# Altium footprint library CRHT-D000027.PcbLib: 23 footprints (part 2 of 2)
Each footprint in its own frame and in the unit in brackets; x right, y up, seen from the top. Pads: shape width x height; smd on the part's side, far side on the other; paste and mask are expansions set on the pad; w line width, h text height; cw(c..) or ccw(c..) is an arc to the next point about the centre after c.
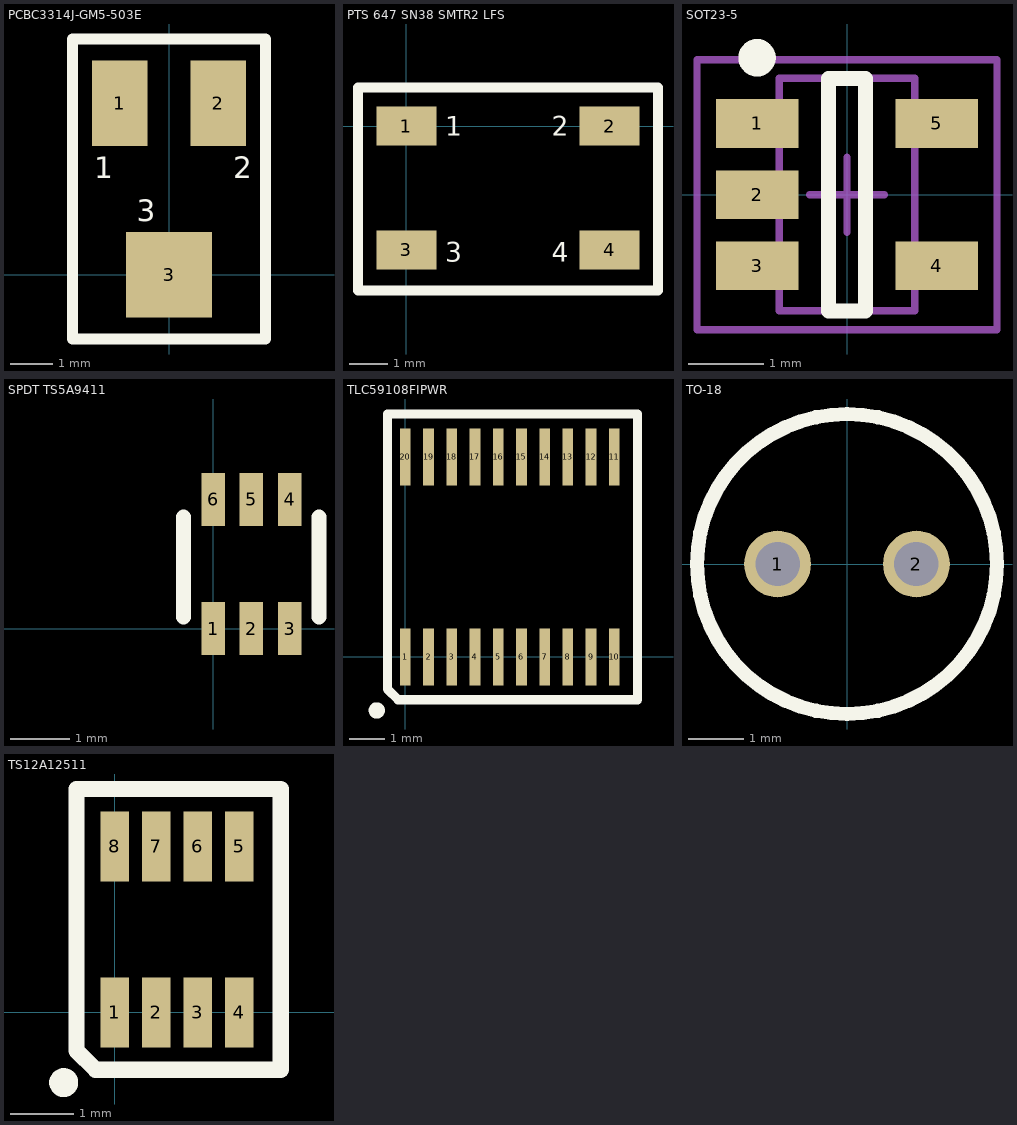
[diagram p1: the footprints below, top view; thin cyan lines are the x and y axes]

## PCBC3314J-GM5-503E [mm] "Potentiameter"
pads (3):
  rect 1.3x2 smd: 1(-1.15,4) 2(1.15,4)
  rect 2x2 smd: 3(0,0)
Top Overlay:
  lines w0.254: -2.25,-1.5 2.25,-1.5 2.25,5.5 -2.25,5.5 -2.25,-1.5
  text "1" at -1.75,2.25 h0.5
  text "2" at 1.5,2.25 h0.5
  text "3" at -0.75,1.25 h0.5

## PTS 647 SN38 SMTR2 LFS [mm] "SMT Switch"
height 2.5
pads (4):
  rect 1.55x1 smd: 1(0,0) 2(5.25,0) 3(0,-3.2) 4(5.25,-3.2)
Top Overlay:
  lines w0.254: -1.25,-4.25 6.5,-4.25 6.5,1 -1.25,1 -1.25,-4.25
  text "2" at 3.75,-0.25 h0.5
  text "1" at 1,-0.25 h0.5
  text "4" at 3.75,-3.5 h0.5
  text "3" at 1,-3.5 h0.5

## SOT23-5 [mm] "SOT23, 6-Leads, Body 2.9x1.6mm, Pitch 0.95mm, Lead Span 2.7mm, IPC Medium Density"
height 1.45
pads (5):
  rect 1.1x0.65 smd: 1(-1.2,0.95) 2(-1.2,0) 3(-1.2,-0.95) 4(1.2,-0.95) 5(1.2,0.95)
Top Overlay:
  circle w0.25: c-1.2,1.825 r0.125
  lines w0.2: -0.25,-1.55 0.25,-1.55 0.25,1.55 -0.25,1.55 -0.25,-1.55
Mechanical 13:
  lines w0.1: -0.9,-1.55 -0.9,1.55 0.9,1.55 0.9,-1.55 -0.9,-1.55
Mechanical 15:
  lines w0.1: -0.5,0 0.5,0 ; 0,-0.5 0,0.5 ; -2,-1.8 -2,1.8 2,1.8 2,-1.8 -2,-1.8
3D body "CRHT-M000541 Rev01 - OPA626NB Wideband, Unity-Gain Stable, FET-Input Operational Amplifier.STEP": height 1.45, standoff 0, extent -1.45,-1.45 1.35,1.45

## SPDT TS5A9411 [mm] "SPDT Multiplexer"
pads (6):
  rect 0.4x0.9 smd mask+0.05: 1(0,0) 2(0.65,0) 3(1.3,0) 4(1.3,2.2) 5(0.65,2.2) 6(0,2.2)
Top Layer:
  region: -3.3,0.2
Top Overlay:
  lines w0.254: -0.5,0.2 -0.5,1.9 ; 1.8,0.2 1.8,1.9

## TLC59108FIPWR [mm]
pads (20):
  rect 0.3x1.6 smd mask+0.07: 1(0,0) 2(0.65,0) 3(1.3,0) 4(1.95,0) 5(2.6,0) 6(3.25,0) 7(3.9,0) 8(4.55,0) 9(5.2,0) 10(5.85,0) 11(5.85,5.6) 12(5.2,5.6) 13(4.55,5.6) 14(3.9,5.6) 15(3.25,5.6) 16(2.6,5.6) 17(1.95,5.6) 18(1.3,5.6) 19(0.65,5.6) 20(0,5.6)
Top Overlay:
  circle w0.254: c-0.8,-1.5 r0.1
  lines w0.254: -0.5,-0.9 -0.5,6.8 6.5,6.8 6.5,-1.2 -0.2,-1.2 -0.5,-0.9
3D body: height 1.27, standoff 0, extent 5.2,1.3 5.2,1.3
3D body "TLC59108F.STEP": height 1.2, standoff -0.11, extent -0.35,-0.525 6.25,6.125

## TO-18 [mm]
pads (2):
  round 1.2 hole 0.8: 1(-1.25,0) 2(1.25,0)
Top Overlay:
  circle w0.254: c0,0 r2.7
3D body: height 1.27, standoff 0, extent -2.4,2.4 -2.4,2.4
3D body: height 1.27, standoff 0, extent 2.2,1.9 2.2,1.9
3D body "LED630L-Step.step": height 6.4, standoff -13.5, extent -2.937,-2.7 2.7,2.937

## TS12A12511 [mm]
pads (8):
  rect 0.45x1.1 smd mask+0.05: 1(0,0) 2(0.65,0) 3(1.3,0) 4(1.95,0) 5(1.95,2.6) 6(1.3,2.6) 7(0.65,2.6) 8(0,2.6)
Top Overlay:
  circle w0.254: c-0.8,-1.1 r0.1
  lines w0.254: -0.6,-0.6 -0.3,-0.9 2.6,-0.9 2.6,3.5 1.45,3.5 0.35,3.5 -0.6,3.5 -0.6,-0.6